# Altium footprint library A6S-510X.PcbLib: 1 footprints
Each footprint in its own frame and in the unit in brackets; x right, y up, seen from the top. Pads: shape width x height; smd on the part's side, far side on the other; paste and mask are expansions set on the pad; w line width, h text height; cw(c..) or ccw(c..) is an arc to the next point about the centre after c.
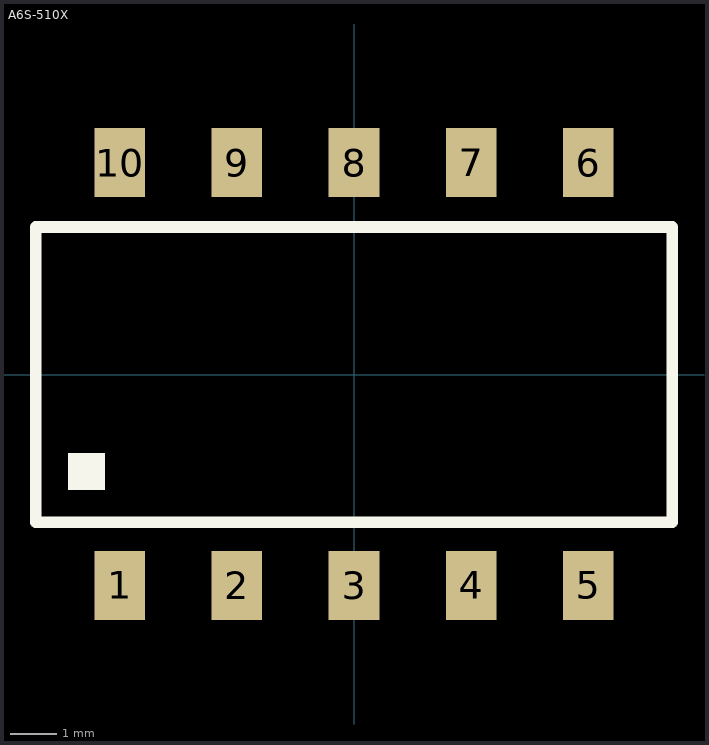
[diagram p0: the footprint, top view; thin cyan lines are the x and y axes]

## A6S-510X [mm] "OMRON A6S-510X SMT Switch 2.54mm pitch (5 pole)"
pads (10):
  rect 1.1x1.5 smd: 1(-5.08,-4.572) 2(-2.54,-4.572) 3(0,-4.572) 4(2.54,-4.572) 5(5.08,-4.572) 6(5.08,4.6) 7(2.54,4.6) 8(0,4.6) 9(-2.54,4.6) 10(-5.08,4.6)
Top Overlay:
  rectangle: -6.2,-2.5 -5.4,-1.7
  lines w0.254: -6.9,-3.2 -6.9,3.2 6.9,3.2 6.9,-3.2 -6.9,-3.2
3D body: height 3, standoff 0.7, extent -6.8,-3.1 6.84,3.1